# Altium footprint library Power-3.96mm-1X2-M-V.PcbLib: 1 footprints
Each footprint in its own frame and in the unit in brackets; x right, y up, seen from the top. Pads: shape width x height; smd on the part's side, far side on the other; paste and mask are expansions set on the pad; w line width, h text height; cw(c..) or ccw(c..) is an arc to the next point about the centre after c.
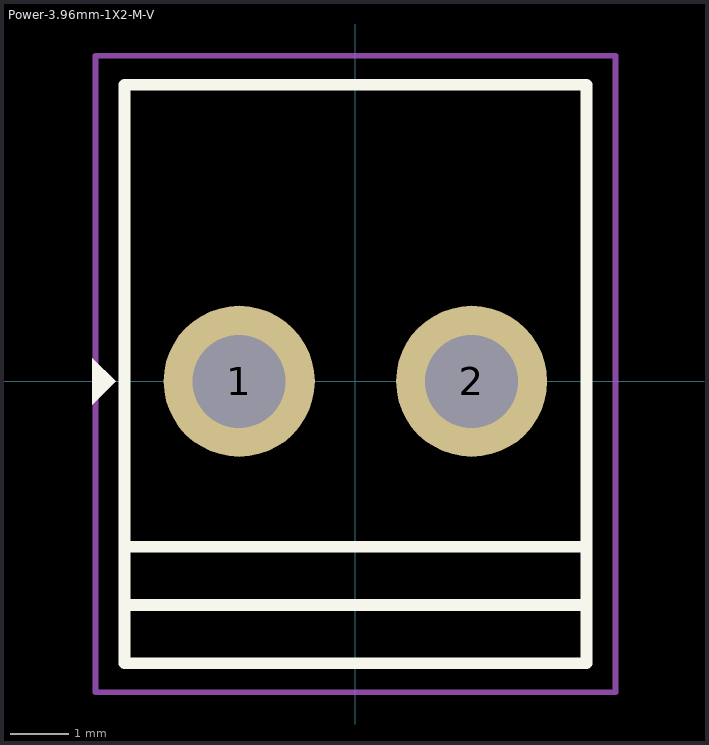
[diagram p0: the footprint, top view; thin cyan lines are the x and y axes]

## Power-3.96mm-1X2-M-V [mm]
pads (2):
  round 2.6 hole 1.6: 1(-2,0) 2(2,0)
Top Overlay:
  region: -4.525,-0.4 -4.525,0.4 -4.125,0
  lines w0.2: -3.975,-3.85 3.975,-3.85 ; -3.975,-2.85 3.975,-2.85 ; -3.975,-4.85 3.975,-4.85 3.975,5.1 -3.975,5.1 -3.975,-4.85
Top Courtyard:
  lines w0.1: -4.475,-5.35 -4.475,5.6 4.475,5.6 4.475,-5.35 -3.975,-5.35 -4.475,-5.35
3D body "x8672wv-02-n2sn-k2.stp": height 13.9, standoff -3.6, extent -3.96,-4.837 3.96,5.098